# Altium footprint library TO-220.PcbLib: 3 footprints
Each footprint in its own frame and in the unit in brackets; x right, y up, seen from the top. Pads: shape width x height; smd on the part's side, far side on the other; paste and mask are expansions set on the pad; w line width, h text height; cw(c..) or ccw(c..) is an arc to the next point about the centre after c.
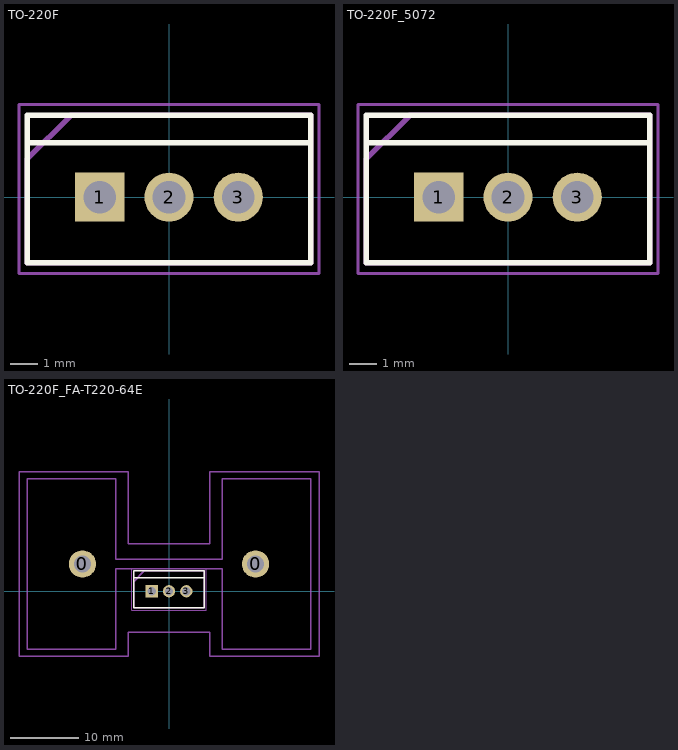
[diagram p0: the footprints below, top view; thin cyan lines are the x and y axes]

## TO-220F [mm]
pads (3):
  rect 1.8x1.8 hole 1.2 mask+0.051: 1(-2.54,0)
  round 1.8 hole 1.2 mask+0.051: 2(0,0) 3(2.54,0)
Top Overlay:
  lines w0.2: -5.2,2 5.2,2 ; -5.2,-2.4 5.2,-2.4 5.2,3 -5.2,3 -5.2,-2.4
Assembly:
  lines w0.2: -5.2,-2.4 -5.2,1.4 -3.6,3 5.2,3 5.2,-2.4 -5.2,-2.4
Courtyard:
  lines w0.1: -5.5,-2.8 5.5,-2.8 5.5,3.4 -5.5,3.4 -5.5,-2.8
3D body: height 19.11, standoff -3, extent -5.942,-1.75 5.942,2.65

## TO-220F_5072 [mm]
pads (3):
  rect 1.8x1.8 hole 1.2 mask+0.051: 1(-2.54,0)
  round 1.8 hole 1.2 mask+0.051: 2(0,0) 3(2.54,0)
Top Overlay:
  lines w0.2: -5.2,2 5.2,2 ; -5.2,-2.4 5.2,-2.4 5.2,3 -5.2,3 -5.2,-2.4
Assembly:
  lines w0.2: -5.2,-2.4 -5.2,1.4 -3.6,3 5.2,3 5.2,-2.4 -5.2,-2.4
Courtyard:
  lines w0.1: -5.5,-2.8 5.5,-2.8 5.5,3.4 -5.5,3.4 -5.5,-2.8
3D body: height 39.84, standoff 2.5, extent -22.225,-6.52 22.225,4
3D body: height 19.11, standoff -3, extent -5.942,-1.75 5.942,2.65

## TO-220F_FA-T220-64E [mm]
pads (5):
  round 4 hole 2.5 unplated mask+0.051: 0(-12.7,4) 0(12.7,4)
  rect 1.8x1.8 hole 1.2 unplated mask+0.051: 1(-2.54,0)
  round 1.8 hole 1.2 unplated mask+0.051: 2(0,0) 3(2.54,0)
Top Overlay:
  lines w0.2: -5.2,2 5.2,2 ; -5.2,-2.4 -5.2,3 5.2,3 5.2,-2.4 -5.2,-2.4
Mechanical 1:
  lines w0.2: -20.8,-8.5 -20.8,16.5 -7.8,16.5 -7.8,4.7 7.8,4.7 7.8,16.5 20.8,16.5 20.8,-8.5 7.8,-8.5 7.8,3.3 -7.8,3.3 -7.8,-8.5 -20.8,-8.5
Assembly:
  lines w0.2: -5.2,-2.4 5.2,-2.4 5.2,3 -3.6,3 -5.2,1.4 -5.2,-2.4
Courtyard:
  lines w0.1: -5.5,-2.8 -5.5,3.4 5.5,3.4 5.5,-2.8 -5.5,-2.8
  lines w0.2: -22,-9.5 -22,17.5 -6,17.5 -6,7 6,7 6,17.5 22,17.5 22,-9.5 6,-9.5 6,-6 -6,-6 -6,-9.5 -22,-9.5
3D body: height 21.31, standoff -0.8, extent -5.942,-1.75 5.942,2.65
3D body: height 63.75, standoff -3.5, extent -20.8,-8.5 20.8,16.5